# EAGLE library part XC9536*?44 (library apbteam_xilinx-cpld)
XC9536 In-System Programmable CPLD 36 macrocells
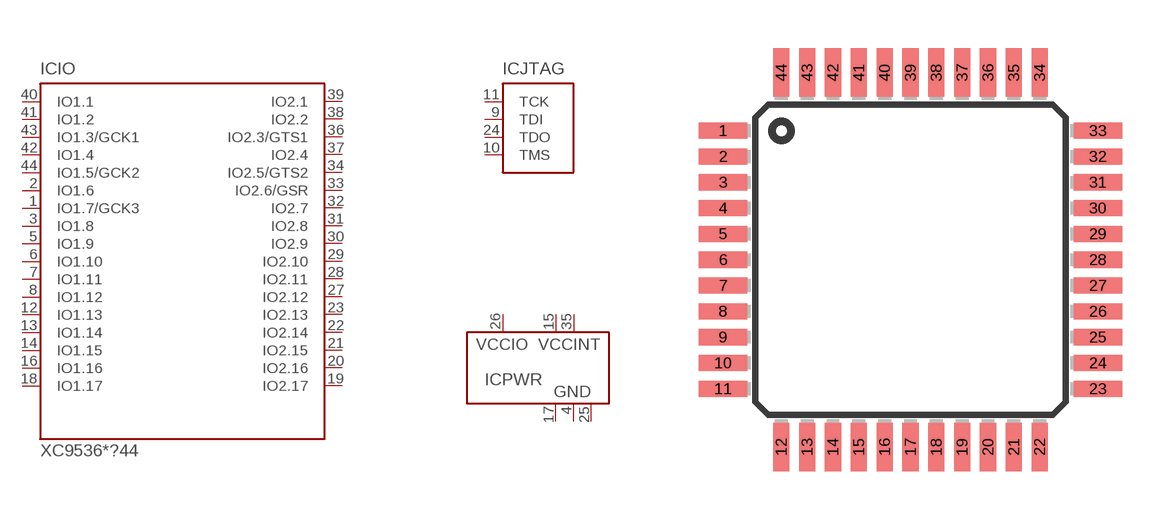
[diagram p1: symbol with the pads of VQFP44; footprint VQFP44]

Designator prefix IC; gates IO=9536-IO JTAG=JTAG PWR=44-PWR

## XC9536VQ44  [VQFP44]
1  IO:IO1.7/GCK3
2  IO:IO1.6
3  IO:IO1.8
4  PWR:GND  pwr
5  IO:IO1.9
6  IO:IO1.10
7  IO:IO1.11
8  IO:IO1.12
9  JTAG:TDI  in
10  JTAG:TMS  in
11  JTAG:TCK  in
12  IO:IO1.13
13  IO:IO1.14
14  IO:IO1.15
15  PWR:VCCINT  pwr
16  IO:IO1.16
17  PWR:GND  pwr
18  IO:IO1.17
19  IO:IO2.17
20  IO:IO2.16
21  IO:IO2.15
22  IO:IO2.14
23  IO:IO2.13
24  JTAG:TDO  out
25  PWR:GND  pwr
26  PWR:VCCIO  pwr
27  IO:IO2.12
28  IO:IO2.11
29  IO:IO2.10
30  IO:IO2.9
31  IO:IO2.8
32  IO:IO2.7
33  IO:IO2.6/GSR
34  IO:IO2.5/GTS2
35  PWR:VCCINT  pwr
36  IO:IO2.3/GTS1
37  IO:IO2.4
38  IO:IO2.2
39  IO:IO2.1
40  IO:IO1.1
41  IO:IO1.2
42  IO:IO1.4
43  IO:IO1.3/GCK1
44  IO:IO1.5/GCK2

## Footprint VQFP44 (pad centres in mm)
Very thin Quad Flat Pack package type VQFP (same footprint as TQFP)
smd 1.5 x 0.5: 1 -5.8,4; 2 -5.8,3.2; 3 -5.8,2.4; 4 -5.8,1.6; 5 -5.8,0.8; 6 -5.8,0; 7 -5.8,-0.8; 8 -5.8,-1.6; 9 -5.8,-2.4; 10 -5.8,-3.2; 11 -5.8,-4; 23 5.8,-4; 24 5.8,-3.2; 25 5.8,-2.4; 26 5.8,-1.6; 27 5.8,-0.8; 28 5.8,0; 29 5.8,0.8; 30 5.8,1.6; 31 5.8,2.4; 32 5.8,3.2; 33 5.8,4
smd 0.5 x 1.5: 12 -4,-5.8; 13 -3.2,-5.8; 14 -2.4,-5.8; 15 -1.6,-5.8; 16 -0.8,-5.8; 17 0,-5.8; 18 0.8,-5.8; 19 1.6,-5.8; 20 2.4,-5.8; 21 3.2,-5.8; 22 4,-5.8; 34 4,5.8; 35 3.2,5.8; 36 2.4,5.8; 37 1.6,5.8; 38 0.8,5.8; 39 0,5.8; 40 -0.8,5.8; 41 -1.6,5.8; 42 -2.4,5.8; 43 -3.2,5.8; 44 -4,5.8